# Altium footprint library 705550002.PcbLib: 1 footprints
Each footprint in its own frame and in the unit in brackets; x right, y up, seen from the top. Pads: shape width x height; smd on the part's side, far side on the other; paste and mask are expansions set on the pad; w line width, h text height; cw(c..) or ccw(c..) is an arc to the next point about the centre after c.
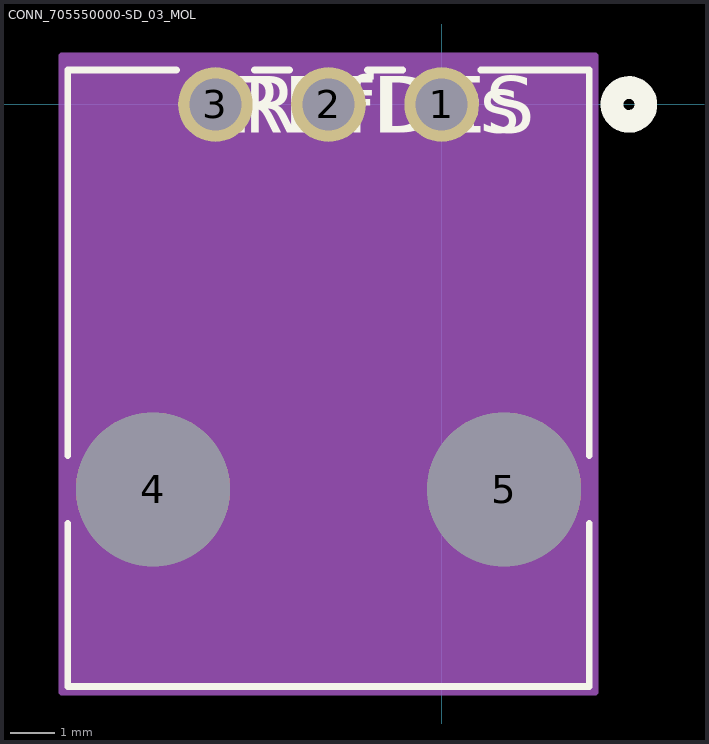
[diagram p0: the footprint, top view; thin cyan lines are the x and y axes]

## CONN_705550000-SD_03_MOL [mil]
pads (5):
  round 66 / inner round 60 / far side round 66 hole 46 paste-33 mask+0: 1(0,0) 2(-100,0) 3(-200,0)
  round 136 / inner round 60 / far side round 136 hole 136 unplated paste+0 mask+0: 4(-255.12,-340.16) 5(55.12,-340.16)
Top Overlay:
  circle w20: c165.5,0 r15
  lines w6: -330.5,-370.07 -330.5,-514.41 130.5,-514.41 130.5,-370.07 ; -330.5,-310.24 -330.5,30.59 -234.49,30.59 ; -165.51,30.59 -134.49,30.59 ; -65.51,30.59 -34.49,30.59 ; 34.49,30.59 130.5,30.59 130.5,-310.24
  text "RefDes" at -175,-25 h50
  text "REFDES" at -187.5,-25 h50
Bottom Overlay:
  circle w20: c165.5,0 r15
Mechanical 13:
  circle w20: c0,0 r15
  lines w1: -325.5,-509.41 125.5,-509.41 125.5,25.59 -325.5,25.59 -325.5,-509.41
  text "RefDes2" at -187.5,-25 h50
Mechanical 15:
  region: 135.5,43 -335.5,43 -335.5,-519.41 135.5,-519.41
  lines w6: -335.5,-519.41 -335.5,43 135.5,43 135.5,-519.41 -335.5,-519.41